# Altium footprint library Conn.PcbLib: 9 footprints
Each footprint in its own frame and in the unit in brackets; x right, y up, seen from the top. Pads: shape width x height; smd on the part's side, far side on the other; paste and mask are expansions set on the pad; w line width, h text height; cw(c..) or ccw(c..) is an arc to the next point about the centre after c.
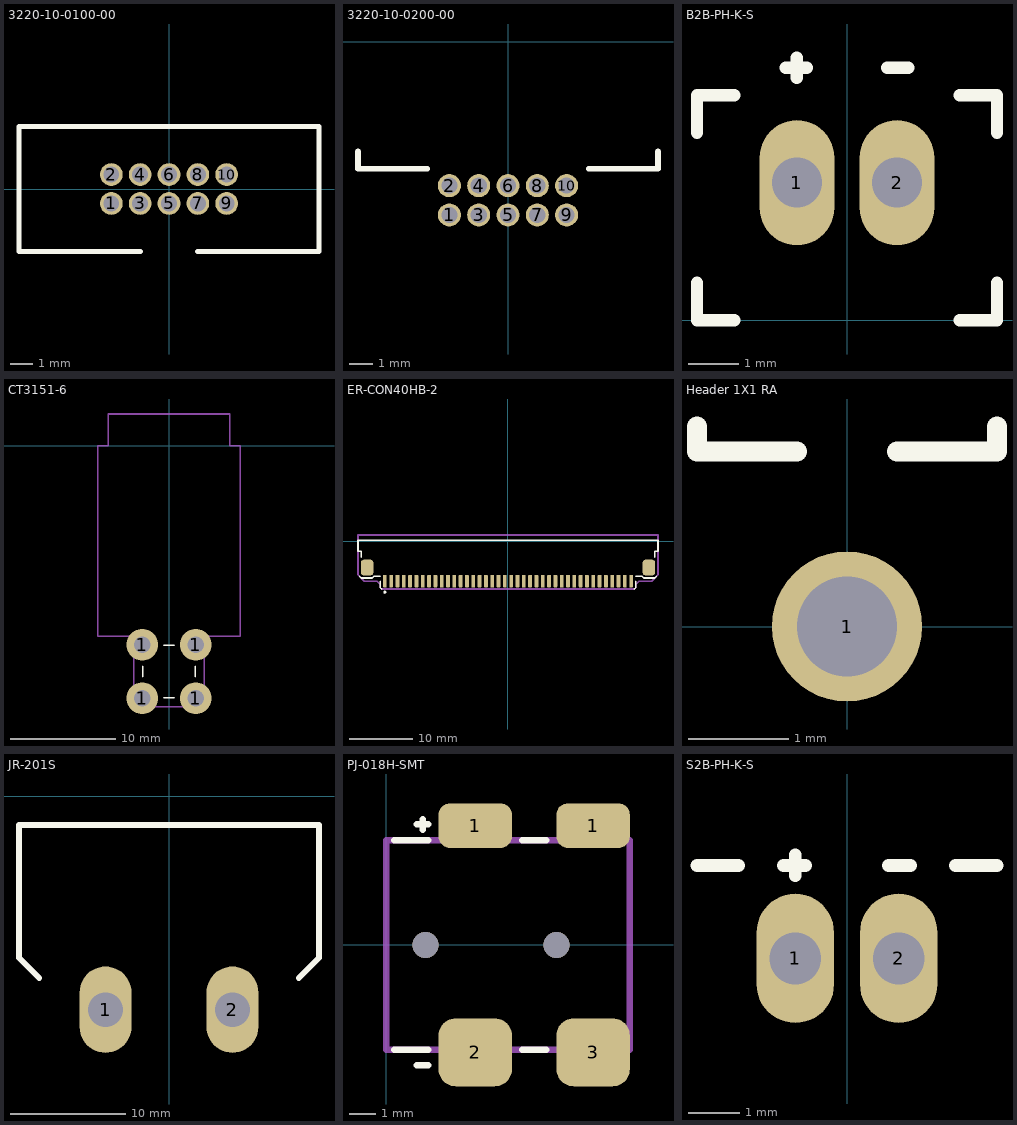
[diagram p0: the footprints below, top view; thin cyan lines are the x and y axes]

## 3220-10-0100-00 [mm] "Conn - JTAG, Header, Male, 10 Pin, 1.27mm Pitch, ARM Standard"
height 5.4
pads (10):
  round 1 hole 0.7 mask+0.05: 1(-2.54,-0.635) 2(-2.54,0.635) 3(-1.27,-0.635) 4(-1.27,0.635) 5(0,-0.635) 6(0,0.635) 7(1.27,-0.635) 8(1.27,0.635) 9(2.54,-0.635) 10(2.54,0.635)
Top Overlay:
  lines w0.2: -1.25,-2.75 -6.5,-2.75 -6.6,-2.75 -6.6,2.75 6,2.75 6.6,2.75 6.6,-2.75 6.5,-2.75 1.25,-2.75
3D body: height 5, standoff -2.1, extent 2.34,-0.835 2.74,-0.435
3D body: height 5, standoff -2.1, extent 2.34,0.435 2.74,0.835
3D body: height 5, standoff -2.1, extent 1.07,0.435 1.47,0.835
3D body: height 5, standoff -2.1, extent 1.07,-0.835 1.47,-0.435
3D body: height 5, standoff -2.1, extent -0.2,-0.835 0.2,-0.435
3D body: height 5, standoff -2.1, extent -0.2,0.435 0.2,0.835
3D body: height 5, standoff -2.1, extent -1.47,0.435 -1.07,0.835
3D body: height 5, standoff -2.1, extent -2.74,0.435 -2.34,0.835
3D body: height 5, standoff -2.1, extent -1.47,-0.835 -1.07,-0.435
3D body: height 5, standoff -2.1, extent -2.74,-0.835 -2.34,-0.435
3D body: height 1.9, standoff 0, extent -6.4,-2.55 6.4,2.55
3D body: height 5.4, standoff 1.9, extent -6.4,-2.55 6.4,2.55

## 3220-10-0200-00 [mm] "Conn - JTAG, Header, Male, Right Angle, 10 Pin, 1.27mm Pitch, ARM Standard"
height 5.1
pads (10):
  round 1 hole 0.7 mask+0.05: 1(-2.54,-7.5) 2(-2.54,-6.23) 3(-1.27,-7.5) 4(-1.27,-6.23) 5(0,-7.5) 6(0,-6.23) 7(1.27,-7.5) 8(1.27,-6.23) 9(2.54,-7.5) 10(2.54,-6.23)
Top Overlay:
  lines w0.25: -6.5,-4.75 -6.5,-5.5 -3.5,-5.5 ; 3.5,-5.5 6.5,-5.5 6.5,-4.75
3D body: height 2.1, standoff 1.7, extent -2.74,-6.03 -2.34,-0.7
3D body: height 2.1, standoff 1.7, extent -1.47,-6.03 -1.07,-0.7
3D body: height 2.1, standoff 1.7, extent -0.2,-6.03 0.2,-0.7
3D body: height 2.1, standoff 1.7, extent 1.07,-6.03 1.47,-0.7
3D body: height 2.1, standoff 1.7, extent 2.34,-6.03 2.74,-0.7
3D body: height 3.4, standoff 3, extent 2.34,-7.3 2.74,-0.7
3D body: height 3.4, standoff 3, extent 1.07,-7.3 1.47,-0.7
3D body: height 3.4, standoff 3, extent -0.2,-7.3 0.2,-0.7
3D body: height 3.4, standoff 3, extent -1.47,-7.3 -1.07,-0.7
3D body: height 3.4, standoff 3, extent -2.74,-7.3 -2.34,-0.7
3D body: height 5.1, standoff 4.4, extent -6.35,-5.4 6.35,0
3D body: height 3.4, standoff -2.1, extent 2.34,-7.7 2.74,-7.3
3D body: height 2.1, standoff -2.1, extent 2.34,-6.43 2.74,-6.03
3D body: height 2.1, standoff -2.1, extent 1.07,-6.43 1.47,-6.03
3D body: height 3.4, standoff -2.1, extent 1.07,-7.7 1.47,-7.3
3D body: height 3.4, standoff -2.1, extent -0.2,-7.7 0.2,-7.3
3D body: height 2.1, standoff -2.1, extent -0.2,-6.43 0.2,-6.03
3D body: height 2.1, standoff -2.1, extent -1.47,-6.43 -1.07,-6.03
3D body: height 2.1, standoff -2.1, extent -2.74,-6.43 -2.34,-6.03
3D body: height 3.4, standoff -2.1, extent -1.47,-7.7 -1.07,-7.3
3D body: height 3.4, standoff -2.1, extent -2.74,-7.7 -2.34,-7.3
3D body: height 0.7, standoff 0, extent -6.35,-5.4 6.35,0
3D body: height 4.4, standoff 0.7, extent -6.35,-5.4 6.35,0

## B2B-PH-K-S [mm] "Conn - Battery, Male, 2 Pin, PCB"
height 6
pads (2):
  oval 1.5x2.5 hole 1: 1(-1,2.75) 2(1,2.75)
Top Overlay:
  lines w0.25: -3,0.75 -3,0 -2.25,0 ; -3,3.75 -3,4.5 -2.25,4.5 ; -1.225,5.05 -0.8,5.05 ; -1,4.85 -1,5.25 ; 0.8,5.05 1.225,5.05 ; 2.25,0 3,0 3,0.75 ; 2.25,4.5 3,4.5 3,3.75
3D body: height 6, standoff 0, extent 0.25,3.75 2.25,4.5
3D body: height 6, standoff 0, extent -2.25,3.75 -0.25,4.5
3D body: height 6, standoff 0, extent -2.25,0 2.25,0.75
3D body: height 4.5, standoff -3, extent -1.25,2.5 -0.75,3
3D body: height 4.5, standoff -3, extent 0.75,2.5 1.25,3
3D body: height 6, standoff 0, extent 2.25,0 3,4.5
3D body: height 6, standoff 0, extent -3,0 -2.25,4.5
3D body: height 1, standoff 0, extent -3,0 3,4.5

## CT3151-6 [mm] "Conn - 4mm Banana Female Jack, PCB mount, Right Angle"
height 13.5
pads (4):
  round 3 hole 1.6: 1(-2.54,-23.98) 1(-2.54,-18.9) 1(2.54,-23.98) 1(2.54,-18.9)
Top Overlay:
  lines w0.15: -2.5,-21.94 -2.5,-20.94 ; -0.5,-23.94 0.5,-23.94 ; -0.5,-18.94 0.5,-18.94 ; 2.5,-21.94 2.5,-20.94
Mechanical 15:
  lines w0.15: -6.75,-18.1 -3.34,-18.1 -3.34,-24.78 3.34,-24.78 3.34,-18.1 6.75,-18.1 6.75,0 5.75,0 5.75,3 -5.75,3 -5.75,0 -6.75,0 -6.75,-18.1
3D body: height 14.34, standoff -3.05, extent -6.731,-24.8 6.731,3

## ER-CON40HB-2 [mm] "Conn - FFC/FPC, 40 Pin, 1.0mm Pitch, ZIF"
height 2.5
pads (42):
  rrect50% 0.6x2 smd: 1(-19.5,-6.3) 2(-18.5,-6.3) 3(-17.5,-6.3) 4(-16.5,-6.3) 5(-15.5,-6.3) 6(-14.5,-6.3) 7(-13.5,-6.3) 8(-12.5,-6.3) 9(-11.5,-6.3) 10(-10.5,-6.3) 11(-9.5,-6.3) 12(-8.5,-6.3) 13(-7.5,-6.3) 14(-6.5,-6.3) 15(-5.5,-6.3) 16(-4.5,-6.3) 17(-3.5,-6.3) 18(-2.5,-6.3) 19(-1.5,-6.3) 20(-0.5,-6.3) 21(0.5,-6.3) 22(1.5,-6.3) 23(2.5,-6.3) 24(3.5,-6.3) 25(4.5,-6.3) 26(5.5,-6.3) 27(6.5,-6.3) 28(7.5,-6.3) 29(8.5,-6.3) 30(9.5,-6.3) 31(10.5,-6.3) 32(11.5,-6.3) 33(12.5,-6.3) 34(13.5,-6.3) 35(14.5,-6.3) 36(15.5,-6.3) 37(16.5,-6.3) 38(17.5,-6.3) 39(18.5,-6.3) 40(19.5,-6.3)
  rrect50% 2x2.5 smd: ""(-22.3,-4.15) ""(22.3,-4.15)
Top Overlay:
  circle w0.25: c-19.5,-8.05 r0.125
  lines w0.25: -23.5,-5.55 -23.25,-5.8 -21.5,-5.8 -21.25,-5.55 -20.25,-5.55 ; -23.25,-2.55 -23.25,-1.55 -23.75,-1.55 -23.75,0.2 23.75,0.2 23.75,-1.55 23.25,-1.55 23.25,-2.55 ; -20.25,-6.3 -20.25,-7.3 -20,-7.55 ; 20,-7.55 20.25,-7.3 20.25,-6.3 ; 20.25,-5.55 21.25,-5.55 21.5,-5.8 23.25,-5.8 23.5,-5.55
Mechanical 15:
  lines w0.25: -23.75,-5.3 -23.75,1 23.75,1 23.75,-5.3 22.75,-6.3 20.75,-6.3 20.25,-6.8 20.25,-7.3 20,-7.55 0,-7.55 -20,-7.55 -20.25,-7.3 -20.25,-6.8 -20.75,-6.3 -22.75,-6.3 -23.75,-5.3
3D body: height 0.75, standoff 0.5, extent 19.35,-5.7 19.65,-5.3
3D body: height 0.75, standoff 0.5, extent 18.35,-5.7 18.65,-5.3
3D body: height 0.75, standoff 0.5, extent 17.35,-5.7 17.65,-5.3
3D body: height 0.75, standoff 0.5, extent 16.35,-5.7 16.65,-5.3
3D body: height 0.75, standoff 0.5, extent 15.35,-5.7 15.65,-5.3
3D body: height 0.75, standoff 0.5, extent 14.35,-5.7 14.65,-5.3
3D body: height 0.75, standoff 0.5, extent 13.35,-5.7 13.65,-5.3
3D body: height 0.75, standoff 0.5, extent 12.35,-5.7 12.65,-5.3
3D body: height 0.75, standoff 0.5, extent 11.35,-5.7 11.65,-5.3
3D body: height 0.75, standoff 0.5, extent 10.35,-5.7 10.65,-5.3
3D body: height 0.75, standoff 0.5, extent 9.35,-5.7 9.65,-5.3
3D body: height 0.75, standoff 0.5, extent 8.35,-5.7 8.65,-5.3
3D body: height 0.75, standoff 0.5, extent 7.35,-5.7 7.65,-5.3
3D body: height 0.75, standoff 0.5, extent 6.35,-5.7 6.65,-5.3
3D body: height 0.75, standoff 0.5, extent 5.35,-5.7 5.65,-5.3
3D body: height 0.75, standoff 0.5, extent 4.35,-5.7 4.65,-5.3
3D body: height 0.75, standoff 0.5, extent 3.35,-5.7 3.65,-5.3
3D body: height 0.75, standoff 0.5, extent 2.35,-5.7 2.65,-5.3
3D body: height 0.75, standoff 0.5, extent 1.35,-5.7 1.65,-5.3
3D body: height 0.75, standoff 0.5, extent 0.35,-5.7 0.65,-5.3
3D body: height 0.75, standoff 0.5, extent -0.65,-5.7 -0.35,-5.3
3D body: height 0.75, standoff 0.5, extent -1.65,-5.7 -1.35,-5.3
3D body: height 0.75, standoff 0.5, extent -2.65,-5.7 -2.35,-5.3
3D body: height 0.75, standoff 0.5, extent -3.65,-5.7 -3.35,-5.3
3D body: height 0.75, standoff 0.5, extent -4.65,-5.7 -4.35,-5.3
3D body: height 0.75, standoff 0.5, extent -5.65,-5.7 -5.35,-5.3
3D body: height 0.75, standoff 0.5, extent -6.65,-5.7 -6.35,-5.3
3D body: height 0.75, standoff 0.5, extent -7.65,-5.7 -7.35,-5.3
3D body: height 0.75, standoff 0.5, extent -8.65,-5.7 -8.35,-5.3
3D body: height 0.75, standoff 0.5, extent -9.65,-5.7 -9.35,-5.3
3D body: height 0.75, standoff 0.5, extent -10.65,-5.7 -10.35,-5.3
3D body: height 0.75, standoff 0.5, extent -11.65,-5.7 -11.35,-5.3
3D body: height 0.75, standoff 0.5, extent -12.65,-5.7 -12.35,-5.3
3D body: height 0.75, standoff 0.5, extent -13.65,-5.7 -13.35,-5.3
3D body: height 0.75, standoff 0.5, extent -14.65,-5.7 -14.35,-5.3
3D body: height 0.75, standoff 0.5, extent -15.65,-5.7 -15.35,-5.3
3D body: height 0.75, standoff 0.5, extent -16.65,-5.7 -16.35,-5.3
3D body: height 0.75, standoff 0.5, extent -17.65,-5.7 -17.35,-5.3
3D body: height 0.75, standoff 0.5, extent -18.65,-5.7 -18.35,-5.3
3D body: height 2.5, standoff 1.25, extent -20.5,-1.3 20.5,0
3D body: height 0.5, standoff 0, extent -20.5,-1.3 20.5,0
3D body: height 0.5, standoff 0, extent 19.35,-6.8 19.65,-5.3
3D body: height 0.5, standoff 0, extent 18.35,-6.8 18.65,-5.3
3D body: height 0.5, standoff 0, extent 17.35,-6.8 17.65,-5.3
3D body: height 0.5, standoff 0, extent 16.35,-6.8 16.65,-5.3
3D body: height 0.5, standoff 0, extent 15.35,-6.8 15.65,-5.3
3D body: height 0.5, standoff 0, extent 14.35,-6.8 14.65,-5.3
3D body: height 0.5, standoff 0, extent 13.35,-6.8 13.65,-5.3
3D body: height 0.5, standoff 0, extent 12.35,-6.8 12.65,-5.3
3D body: height 0.5, standoff 0, extent 11.35,-6.8 11.65,-5.3
3D body: height 0.5, standoff 0, extent 10.35,-6.8 10.65,-5.3
3D body: height 0.5, standoff 0, extent 9.35,-6.8 9.65,-5.3
3D body: height 0.5, standoff 0, extent 8.35,-6.8 8.65,-5.3
3D body: height 0.5, standoff 0, extent 7.35,-6.8 7.65,-5.3
3D body: height 0.5, standoff 0, extent 6.35,-6.8 6.65,-5.3
3D body: height 0.5, standoff 0, extent 5.35,-6.8 5.65,-5.3
3D body: height 0.5, standoff 0, extent 4.35,-6.8 4.65,-5.3
3D body: height 0.5, standoff 0, extent 3.35,-6.8 3.65,-5.3
3D body: height 0.5, standoff 0, extent 2.35,-6.8 2.65,-5.3
3D body: height 0.5, standoff 0, extent 1.35,-6.8 1.65,-5.3
3D body: height 0.5, standoff 0, extent 0.35,-6.8 0.65,-5.3
3D body: height 0.5, standoff 0, extent -0.65,-6.8 -0.35,-5.3
3D body: height 0.5, standoff 0, extent -1.65,-6.8 -1.35,-5.3
3D body: height 0.5, standoff 0, extent -2.65,-6.8 -2.35,-5.3
3D body: height 0.5, standoff 0, extent -3.65,-6.8 -3.35,-5.3
3D body: height 0.5, standoff 0, extent -4.65,-6.8 -4.35,-5.3
3D body: height 0.5, standoff 0, extent -5.65,-6.8 -5.35,-5.3
3D body: height 0.5, standoff 0, extent -6.65,-6.8 -6.35,-5.3
3D body: height 0.5, standoff 0, extent -7.65,-6.8 -7.35,-5.3
3D body: height 0.5, standoff 0, extent -8.65,-6.8 -8.35,-5.3
3D body: height 0.5, standoff 0, extent -9.65,-6.8 -9.35,-5.3
3D body: height 0.5, standoff 0, extent -10.65,-6.8 -10.35,-5.3
3D body: height 0.5, standoff 0, extent -11.65,-6.8 -11.35,-5.3
3D body: height 0.5, standoff 0, extent -12.65,-6.8 -12.35,-5.3
3D body: height 0.5, standoff 0, extent -13.65,-6.8 -13.35,-5.3
3D body: height 0.5, standoff 0, extent -14.65,-6.8 -14.35,-5.3
3D body: height 0.5, standoff 0, extent -15.65,-6.8 -15.35,-5.3
3D body: height 0.5, standoff 0, extent -16.65,-6.8 -16.35,-5.3
3D body: height 0.5, standoff 0, extent -17.65,-6.8 -17.35,-5.3
3D body: height 0.5, standoff 0, extent -18.65,-6.8 -18.35,-5.3
3D body: height 0.5, standoff 0, extent -19.65,-6.8 -19.35,-5.3
3D body: height 2.5, standoff 0.15, extent -23.005,-5.305 23.005,-1.3
3D body: height 2.5, standoff 0, extent -23.5,-1.3 -20.5,0
3D body: height 2.5, standoff 0, extent 20.5,-1.3 23.5,0
3D body: height 0.75, standoff 0.5, extent -19.65,-5.7 -19.35,-5.3
3D body: height 0.15, standoff 0, extent -23.255,-5.055 -21.5,-3.05
3D body: height 0.15, standoff 0, extent 21.5,-5.055 23.255,-3.05

## Header 1X1 RA [mm] "Conn - Header, 1 Pin, Right Angle"
height 5
pads (1):
  round 1.5 hole 1: 1(0,0)
Top Overlay:
  lines w0.2: -1.5,2 -1.5,1.75 -0.5,1.75 ; 0.5,1.75 1.5,1.75 1.5,2
3D body: height 1.57, standoff 0.93, extent -0.32,0.31 0.32,9.5
3D body: height 2.5, standoff 0, extent -1.25,2 1.25,4.5
3D body: height 1.57, standoff -3, extent -0.32,-0.32 0.32,0.32

## JR-201S [mm] "Conn - 250 V AC, Inlet, IEC, Plug"
height 16
pads (2):
  oval 4.5x7.5 hole 3: 1(-5.5,-18.5) 2(5.5,-18.5)
Top Overlay:
  lines w0.5: -11.25,-15.75 -13,-14 -13,-2.5 13,-2.5 13,-14 11.25,-15.75
3D body: height 10, standoff 5, extent 3,-21 8,-16
3D body: height 10, standoff 5, extent -8,-21 -3,-16
3D body: height 5, standoff -5.3, extent -6,-19.75 -5,-17.25
3D body: height 5, standoff -5.3, extent 5,-19.75 6,-17.25
3D body: height 16, standoff 0, extent -14,-2.5 14,0
3D body: height 15, standoff 1, extent -13,-16 13,-2.5

## PJ-018H-SMT [mm] "Conn - DC Power, Male, PCB, 4.0 mmOD / 1.7 mmID"
height 5.5
pads (4):
  rrect50% 2.8x1.7 smd: 1(3.4,4.55) 1(7.9,4.55)
  rrect50% 2.8x2.6 smd: 2(3.4,-4.1) 3(7.9,-4.1)
via 1.5,0 diameter 1 hole 1
via 6.5,0 diameter 1 hole 1
Top Overlay:
  lines w0.25: 0.3,-4 1.6,-4 ; 0.3,4 1.6,4 ; 1.175,-4.6 1.6,-4.6 ; 1.175,4.6 1.6,4.6 ; 1.4,4.4 1.4,4.8 ; 5.2,-4 6.1,-4 ; 5.2,4 6.1,4
Mechanical 15:
  lines w0.25: 0,-4 9.3,-4 9.3,4 0,4 0,-4
3D body: height 0.2, standoff -0.6, extent 6.101,-0.4 6.9,0.4
3D body: height 0.2, standoff -0.6, extent 1.101,-0.4 1.9,0.4
3D body: height 5.5, standoff 5, extent 0,-0.9 9.3,3.5
3D body: height 0.7, standoff 0.2, extent 0,-0.9 9.3,3.5
3D body: height 5.5, standoff 0.2, extent 0,-4 9.3,-0.9
3D body: height 5.5, standoff 0.2, extent 0,3.5 9.3,4
3D body: height 0.2, standoff 0, extent 7.1,3.7 8.7,5
3D body: height 0.2, standoff 0, extent 2.6,3.7 4.2,5
3D body: height 0.2, standoff 0, extent 2.6,-5 4.2,-2.8
3D body: height 0.2, standoff 0, extent 7.1,-5 8.7,-2.8
3D body: height 5, standoff 0.7, extent 6.2,-0.9 9.3,3.5
3D body: height 3.7, standoff 1.9, extent 1.2,0.402 6.2,2.197

## S2B-PH-K-S [mm] "Conn - Battery, Male, 2 Pin, PCB, Right Angle"
height 5
pads (2):
  oval 1.5x2.5 hole 1: 1(-1,6.25) 2(1,6.25)
Top Overlay:
  lines w0.25: -2.9,8.05 -2.1,8.05 ; -1.225,8.05 -0.8,8.05 ; -1,7.85 -1,8.25 ; 0.8,8.05 1.225,8.05 ; 2.1,8.05 2.9,8.05
3D body: height 3.2, standoff 2.7, extent -1.25,1 -0.75,6.5
3D body: height 3.2, standoff 2.7, extent 0.75,1 1.25,6.5
3D body: height 4.8, standoff 1, extent -2,5.25 2,6.25
3D body: height 4.5, standoff 3.8, extent -2,0 2,6.25
3D body: height 4.8, standoff 0, extent -3,0 -2,8
3D body: height 4.8, standoff 0, extent 2,0 3,8
3D body: height 1.5, standoff 0.8, extent -2,0 2,6.25
3D body: height 3.2, standoff -3, extent 0.75,6 1.25,6.5
3D body: height 3.2, standoff -3, extent -1.25,6 -0.75,6.5